# Altium footprint library Dual-In-Line Package.PcbLib: 149 footprints (part 3 of 10)
Each footprint in its own frame and in the unit in brackets; x right, y up, seen from the top. Pads: shape width x height; smd on the part's side, far side on the other; paste and mask are expansions set on the pad; w line width, h text height; cw(c..) or ccw(c..) is an arc to the next point about the centre after c.
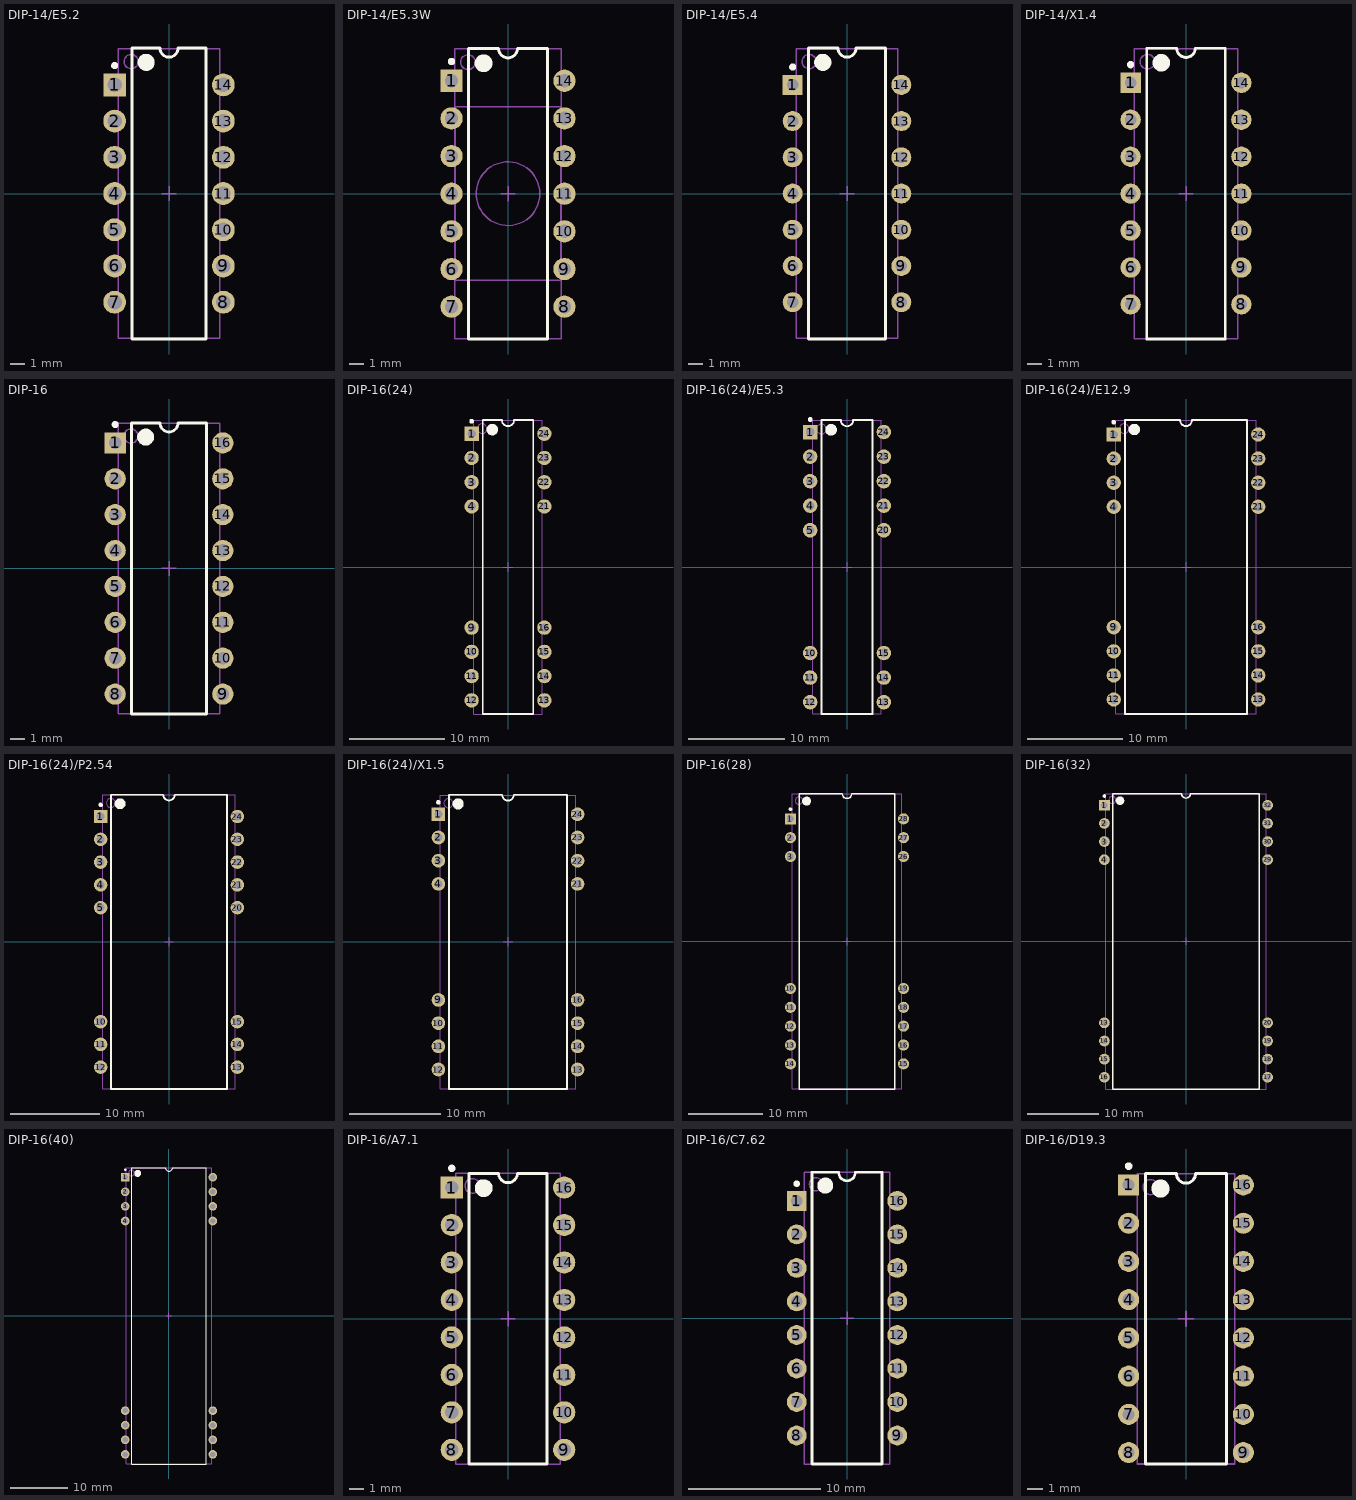
[diagram p2: the footprints below, top view; thin cyan lines are the x and y axes]

## DIP-14/E5.2 [mm] "DIP, 14-Pin, Row Spacing 7.62 mm, Pitch 2.54 mm"
height 5.08
pads (14):
  rect 1.6x1.6 hole 1: 1(-3.81,7.62)
  round 1.6 hole 1: 2(-3.81,5.08) 3(-3.81,2.54) 4(-3.81,0) 5(-3.81,-2.54) 6(-3.81,-5.08) 7(-3.81,-7.62) 8(3.81,-7.62) 9(3.81,-5.08) 10(3.81,-2.54) 11(3.81,0) 12(3.81,2.54) 13(3.81,5.08) 14(3.81,7.62)
Top Overlay:
  circle w0.6: c-1.6,9.2 r0.3
  circle w0.25: c-3.81,8.97 r0.125
  lines w0.2: -2.6,-10.2 2.6,-10.2 2.6,10.2 0.635,10.2 cw(c0,10.2) -0.635,10.2 -2.6,10.2 -2.6,-10.2
Mechanical 13:
  circle w0.1: c-2.65,9.25 r0.5
  lines w0.1: -3.55,-10.15 3.55,-10.15 3.55,10.15 -3.55,10.15 -3.55,-10.15
Mechanical 15:
  lines w0.1: -0.5,0 0.5,0 ; 0,-0.5 0,0.5
3D body: height 5.08, standoff 0, extent -3.55,-10.15 3.55,10.15

## DIP-14/E5.3W [mm] "DIP, 14-Leads, Row Spacing 7.62mm, Pitch 2.54mm, Body 18.58x7.49mm, Lid"
height 5.08
pads (14):
  rect 1.5x1.5 hole 0.9: 1(-3.81,7.62)
  round 1.5 hole 0.9: 2(-3.81,5.08) 3(-3.81,2.54) 4(-3.81,0) 5(-3.81,-2.54) 6(-3.81,-5.08) 7(-3.81,-7.62) 8(3.81,-7.62) 9(3.81,-5.08) 10(3.81,-2.54) 11(3.81,0) 12(3.81,2.54) 13(3.81,5.08) 14(3.81,7.62)
Top Overlay:
  circle w0.6: c-1.65,8.8 r0.3
  circle w0.25: c-3.81,8.92 r0.125
  lines w0.2: -2.65,-9.8 2.65,-9.8 2.65,9.8 0.635,9.8 cw(c0,9.8) -0.635,9.8 -2.65,9.8 -2.65,-9.8
Mechanical 13:
  circle w0.1: c0,0 r2.15
  circle w0.1: c-2.7,8.875 r0.5
  lines w0.1: -3.6,-9.775 3.6,-9.775 3.6,9.775 -3.6,9.775 -3.6,-9.775 ; -3.55,-5.85 3.55,-5.85 3.55,5.85 -3.55,5.85 -3.55,-5.85
Mechanical 15:
  lines w0.1: -0.5,0 0.5,0 ; 0,-0.5 0,0.5
3D body: height 3.56, standoff 0.64, extent -3.599,-9.774 3.599,9.774
3D body: height 5.08, standoff 3.56, extent -3.549,-5.849 3.549,5.849

## DIP-14/E5.4 [mm] "DIP, 14-Pin, Row Spacing 7.62 mm, Pitch 2.54 mm"
height 5.08
pads (14):
  rect 1.4x1.4 hole 0.8: 1(-3.81,7.62)
  round 1.4 hole 0.8: 2(-3.81,5.08) 3(-3.81,2.54) 4(-3.81,0) 5(-3.81,-2.54) 6(-3.81,-5.08) 7(-3.81,-7.62) 8(3.81,-7.62) 9(3.81,-5.08) 10(3.81,-2.54) 11(3.81,0) 12(3.81,2.54) 13(3.81,5.08) 14(3.81,7.62)
Top Overlay:
  circle w0.6: c-1.7,9.2 r0.3
  circle w0.25: c-3.81,8.87 r0.125
  lines w0.2: -2.7,-10.2 2.7,-10.2 2.7,10.2 0.635,10.2 cw(c0,10.2) -0.635,10.2 -2.7,10.2 -2.7,-10.2
Mechanical 13:
  circle w0.1: c-2.65,9.25 r0.5
  lines w0.1: -3.55,-10.15 3.55,-10.15 3.55,10.15 -3.55,10.15 -3.55,-10.15
Mechanical 15:
  lines w0.1: -0.5,0 0.5,0 ; 0,-0.5 0,0.5
3D body: height 5.08, standoff 0, extent -3.55,-10.15 3.55,10.15

## DIP-14/X1.4 [mm] "DIP, 14-Pin, Row Spacing 7.62 mm, Pitch 2.54 mm"
height 5.33
pads (14):
  rect 1.4x1.4 hole 0.8: 1(-3.81,7.62)
  round 1.4 hole 0.8: 2(-3.81,5.08) 3(-3.81,2.54) 4(-3.81,0) 5(-3.81,-2.54) 6(-3.81,-5.08) 7(-3.81,-7.62) 8(3.81,-7.62) 9(3.81,-5.08) 10(3.81,-2.54) 11(3.81,0) 12(3.81,2.54) 13(3.81,5.08) 14(3.81,7.62)
Top Overlay:
  circle w0.6: c-1.7,9 r0.3
  circle w0.25: c-3.81,8.87 r0.125
  lines w0.2: -2.7,-10 2.7,-10 2.7,10 0.635,10 cw(c0,10) -0.635,10 -2.7,10 -2.7,-10
Mechanical 13:
  circle w0.1: c-2.65,9.075 r0.5
  lines w0.1: -3.55,-9.975 3.55,-9.975 3.55,9.975 -3.55,9.975 -3.55,-9.975
Mechanical 15:
  lines w0.1: -0.5,0 0.5,0 ; 0,-0.5 0,0.5
3D body: height 5.33, standoff 0, extent -3.55,-9.975 3.55,9.975

## DIP-16 [mm] "DIP, 16-Pin, Row Spacing 7.62 mm, Pitch 2.54 mm"
height 5.08
pads (16):
  rect 1.5x1.5 hole 0.9: 1(-3.81,8.89)
  round 1.5 hole 0.9: 2(-3.81,6.35) 3(-3.81,3.81) 4(-3.81,1.27) 5(-3.81,-1.27) 6(-3.81,-3.81) 7(-3.81,-6.35) 8(-3.81,-8.89) 9(3.81,-8.89) 10(3.81,-6.35) 11(3.81,-3.81) 12(3.81,-1.27) 13(3.81,1.27) 14(3.81,3.81) 15(3.81,6.35) 16(3.81,8.89)
Top Overlay:
  circle w0.25: c-3.81,10.19 r0.125
  circle w0.6: c-1.65,9.3 r0.3
  lines w0.2: -2.65,-10.3 -2.65,10.3 -0.635,10.3 ccw(c0,10.3) 0.635,10.3 2.65,10.3 2.65,-10.3 -2.65,-10.3
Mechanical 13:
  circle w0.1: c-2.7,9.375 r0.5
  lines w0.1: -3.6,-10.275 -3.6,10.275 3.6,10.275 3.6,-10.275 -3.6,-10.275
Mechanical 15:
  lines w0.1: -0.5,0 0.5,0 ; 0,-0.5 0,0.5
3D body: height 5.08, standoff 0, extent -3.6,-10.275 3.6,10.275

## DIP-16(24) [mm] "DIP, 24-Pin (8 Absent), Row Spacing 7.62 mm, Pitch 2.54 mm"
height 4.7
pads (16):
  rect 1.5x1.5 hole 0.9: 1(-3.81,13.97)
  round 1.5 hole 0.9: 2(-3.81,11.43) 3(-3.81,8.89) 4(-3.81,6.35) 9(-3.81,-6.35) 10(-3.81,-8.89) 11(-3.81,-11.43) 12(-3.81,-13.97) 13(3.81,-13.97) 14(3.81,-11.43) 15(3.81,-8.89) 16(3.81,-6.35) 21(3.81,6.35) 22(3.81,8.89) 23(3.81,11.43) 24(3.81,13.97)
Top Overlay:
  circle w0.25: c-3.81,15.27 r0.125
  circle w0.6: c-1.65,14.4 r0.3
  lines w0.2: -2.65,-15.4 -2.65,15.4 -0.635,15.4 ccw(c0,15.4) 0.635,15.4 2.65,15.4 2.65,-15.4 -2.65,-15.4
Mechanical 13:
  circle w0.1: c-2.7,14.5 r0.5
  lines w0.1: -3.6,-15.4 -3.6,15.4 3.6,15.4 3.6,-15.4 -3.6,-15.4
Mechanical 15:
  lines w0.1: -0.5,0 0.5,0 ; 0,-0.5 0,0.5
3D body: height 4.7, standoff 0, extent -3.6,-15.4 3.6,15.4

## DIP-16(24)/E5.3 [mm] "DIP, 24-Pin (8 Absent), Row Spacing 7.62 mm, Pitch 2.54 mm"
height 5.33
pads (16):
  rect 1.5x1.5 hole 0.9: 1(-3.81,13.97)
  round 1.5 hole 0.9: 2(-3.81,11.43) 3(-3.81,8.89) 4(-3.81,6.35) 5(-3.81,3.81) 10(-3.81,-8.89) 11(-3.81,-11.43) 12(-3.81,-13.97) 13(3.81,-13.97) 14(3.81,-11.43) 15(3.81,-8.89) 20(3.81,3.81) 21(3.81,6.35) 22(3.81,8.89) 23(3.81,11.43) 24(3.81,13.97)
Top Overlay:
  circle w0.6: c-1.65,14.2 r0.3
  circle w0.25: c-3.81,15.27 r0.125
  lines w0.2: -2.65,-15.2 2.65,-15.2 2.65,15.2 0.635,15.2 cw(c0,15.2) -0.635,15.2 -2.65,15.2 -2.65,-15.2
Mechanical 13:
  circle w0.1: c-2.65,14.275 r0.5
  lines w0.1: -3.55,-15.175 3.55,-15.175 3.55,15.175 -3.55,15.175 -3.55,-15.175
Mechanical 15:
  lines w0.1: -0.5,0 0.5,0 ; 0,-0.5 0,0.5
3D body: height 5.33, standoff 0, extent -3.55,-15.175 3.55,15.175

## DIP-16(24)/E12.9 [mm] "DIP, 24-Pin (8 Absent), Row Spacing 15.24 mm, Pitch 2.54 mm"
height 4.7
pads (16):
  rect 1.5x1.5 hole 0.9: 1(-7.62,13.97)
  round 1.5 hole 0.9: 2(-7.62,11.43) 3(-7.62,8.89) 4(-7.62,6.35) 9(-7.62,-6.35) 10(-7.62,-8.89) 11(-7.62,-11.43) 12(-7.62,-13.97) 13(7.62,-13.97) 14(7.62,-11.43) 15(7.62,-8.89) 16(7.62,-6.35) 21(7.62,6.35) 22(7.62,8.89) 23(7.62,11.43) 24(7.62,13.97)
Top Overlay:
  circle w0.25: c-7.62,15.27 r0.125
  circle w0.6: c-5.45,14.5 r0.3
  lines w0.2: -6.45,-15.5 -6.45,15.5 -0.635,15.5 ccw(c0,15.5) 0.635,15.5 6.45,15.5 6.45,-15.5 -6.45,-15.5
Mechanical 13:
  circle w0.1: c-6.525,14.6 r0.5
  lines w0.1: -7.425,-15.5 -7.425,15.5 7.425,15.5 7.425,-15.5 -7.425,-15.5
Mechanical 15:
  lines w0.1: -0.5,0 0.5,0 ; 0,-0.5 0,0.5
3D body: height 4.7, standoff 0, extent -7.425,-15.5 7.425,15.5

## DIP-16(24)/P2.54 [mm] "DIP, 24-Pin (8 Absent), Row Spacing 15.24 mm, Pitch 2.54 mm"
height 6.35
pads (16):
  rect 1.5x1.5 hole 0.9: 1(-7.62,13.97)
  round 1.5 hole 0.9: 2(-7.62,11.43) 3(-7.62,8.89) 4(-7.62,6.35) 5(-7.62,3.81) 10(-7.62,-8.89) 11(-7.62,-11.43) 12(-7.62,-13.97) 13(7.62,-13.97) 14(7.62,-11.43) 15(7.62,-8.89) 20(7.62,3.81) 21(7.62,6.35) 22(7.62,8.89) 23(7.62,11.43) 24(7.62,13.97)
Top Overlay:
  circle w0.6: c-5.45,15.4 r0.3
  circle w0.25: c-7.62,15.27 r0.125
  lines w0.2: -6.45,-16.4 6.45,-16.4 6.45,16.4 0.635,16.4 cw(c0,16.4) -0.635,16.4 -6.45,16.4 -6.45,-16.4
Mechanical 13:
  circle w0.1: c-6.475,15.475 r0.5
  lines w0.1: -7.375,-16.375 7.375,-16.375 7.375,16.375 -7.375,16.375 -7.375,-16.375
Mechanical 15:
  lines w0.1: -0.5,0 0.5,0 ; 0,-0.5 0,0.5
3D body: height 6.35, standoff 0, extent -7.375,-16.375 7.375,16.375

## DIP-16(24)/X1.5 [mm] "DIP, 24-Pin (8 Absent), Row Spacing 15.24 mm, Pitch 2.54 mm"
height 9.52
pads (16):
  rect 1.5x1.5 hole 0.9: 1(-7.62,13.97)
  round 1.5 hole 0.9: 2(-7.62,11.43) 3(-7.62,8.89) 4(-7.62,6.35) 9(-7.62,-6.35) 10(-7.62,-8.89) 11(-7.62,-11.43) 12(-7.62,-13.97) 13(7.62,-13.97) 14(7.62,-11.43) 15(7.62,-8.89) 16(7.62,-6.35) 21(7.62,6.35) 22(7.62,8.89) 23(7.62,11.43) 24(7.62,13.97)
Top Overlay:
  circle w0.25: c-7.62,15.27 r0.125
  circle w0.6: c-5.45,15.1 r0.3
  lines w0.2: -6.45,-16.1 -6.45,16.1 -0.635,16.1 ccw(c0,16.1) 0.635,16.1 6.45,16.1 6.45,-16.1 -6.45,-16.1
Mechanical 13:
  circle w0.1: c-6.525,15.175 r0.5
  lines w0.1: -7.425,-16.075 -7.425,16.075 7.425,16.075 7.425,-16.075 -7.425,-16.075
Mechanical 15:
  lines w0.1: -0.5,0 0.5,0 ; 0,-0.5 0,0.5
3D body: height 9.52, standoff 0, extent -7.425,-16.075 7.425,16.075

## DIP-16(28) [mm] "DIP, 28-Pin (12 Absent), Row Spacing 15.24 mm, Pitch 2.54 mm"
height 6.35
pads (16):
  rect 1.5x1.5 hole 0.9: 1(-7.62,16.51)
  round 1.5 hole 0.9: 2(-7.62,13.97) 3(-7.62,11.43) 10(-7.62,-6.35) 11(-7.62,-8.89) 12(-7.62,-11.43) 13(-7.62,-13.97) 14(-7.62,-16.51) 15(7.62,-16.51) 16(7.62,-13.97) 17(7.62,-11.43) 18(7.62,-8.89) 19(7.62,-6.35) 26(7.62,11.43) 27(7.62,13.97) 28(7.62,16.51)
Top Overlay:
  circle w0.6: c-5.45,18.9 r0.3
  circle w0.25: c-7.62,17.81 r0.125
  lines w0.2: -6.45,-19.9 6.45,-19.9 6.45,19.9 0.635,19.9 cw(c0,19.9) -0.635,19.9 -6.45,19.9 -6.45,-19.9
Mechanical 13:
  circle w0.1: c-6.475,18.975 r0.5
  lines w0.1: -7.375,-19.875 7.375,-19.875 7.375,19.875 -7.375,19.875 -7.375,-19.875
Mechanical 15:
  lines w0.1: -0.5,0 0.5,0 ; 0,-0.5 0,0.5
3D body: height 6.35, standoff 0, extent -7.375,-19.875 7.375,19.875

## DIP-16(32) [mm] "DIP, 32-Pin (16 Absent), Row Spacing 22.86 mm, Pitch 2.54 mm"
height 9.4
pads (16):
  rect 1.5x1.5 hole 0.9: 1(-11.43,19.05)
  round 1.5 hole 0.9: 2(-11.43,16.51) 3(-11.43,13.97) 4(-11.43,11.43) 13(-11.43,-11.43) 14(-11.43,-13.97) 15(-11.43,-16.51) 16(-11.43,-19.05) 17(11.43,-19.05) 18(11.43,-16.51) 19(11.43,-13.97) 20(11.43,-11.43) 29(11.43,11.43) 30(11.43,13.97) 31(11.43,16.51) 32(11.43,19.05)
Top Overlay:
  circle w0.6: c-9.25,19.7 r0.3
  circle w0.25: c-11.43,20.35 r0.125
  lines w0.2: -10.25,-20.7 10.25,-20.7 10.25,20.7 0.635,20.7 cw(c0,20.7) -0.635,20.7 -10.25,20.7 -10.25,-20.7
Mechanical 13:
  circle w0.1: c-10.325,19.8 r0.5
  lines w0.1: -11.225,-20.7 11.225,-20.7 11.225,20.7 -11.225,20.7 -11.225,-20.7
Mechanical 15:
  lines w0.1: -0.5,0 0.5,0 ; 0,-0.5 0,0.5
3D body: height 9.4, standoff 0, extent -11.225,-20.7 11.225,20.7

## DIP-16(40) [mm] "DIP, 40-Pin (24 Absent), Row Spacing 15.24 mm, Pitch 2.54 mm"
height 4.83
pads (16):
  rect 1.5x1.5 hole 0.9: 1(-7.62,24.13)
  round 1.5 hole 0.9: 2(-7.62,21.59) 3(-7.62,19.05) 4(-7.62,16.51) 17(-7.62,-16.51) 18(-7.62,-19.05) 19(-7.62,-21.59) 20(-7.62,-24.13) 21(7.62,-24.13) 22(7.62,-21.59) 23(7.62,-19.05) 24(7.62,-16.51) 37(7.62,16.51) 38(7.62,19.05) 39(7.62,21.59) 40(7.62,24.13)
Top Overlay:
  circle w0.25: c-7.62,25.43 r0.125
  circle w0.6: c-5.45,24.8 r0.3
  lines w0.2: -6.45,-25.8 -6.45,25.8 -0.635,25.8 ccw(c0,25.8) 0.635,25.8 6.45,25.8 6.45,-25.8 -6.45,-25.8
Mechanical 13:
  circle w0.1: c-6.525,24.875 r0.5
  lines w0.1: -7.425,-25.775 -7.425,25.775 7.425,25.775 7.425,-25.775 -7.425,-25.775
Mechanical 15:
  lines w0.1: -0.5,0 0.5,0 ; 0,-0.5 0,0.5
3D body: height 4.83, standoff 0, extent -7.425,-25.775 7.425,25.775

## DIP-16/A7.1 [mm] "DIP, 16-Leads, Row Spacing 7.62mm, Pitch 2.54mm, Body 19.2x6.6mm"
height 5.34
pads (16):
  rect 1.5x1.5 hole 0.9: 1(-3.81,8.89)
  round 1.5 hole 0.9: 2(-3.81,6.35) 3(-3.81,3.81) 4(-3.81,1.27) 5(-3.81,-1.27) 6(-3.81,-3.81) 7(-3.81,-6.35) 8(-3.81,-8.89) 9(3.81,-8.89) 10(3.81,-6.35) 11(3.81,-3.81) 12(3.81,-1.27) 13(3.81,1.27) 14(3.81,3.81) 15(3.81,6.35) 16(3.81,8.89)
Top Overlay:
  circle w0.6: c-1.65,8.85 r0.3
  circle w0.25: c-3.81,10.19 r0.125
  lines w0.2: -2.65,-9.85 2.65,-9.85 2.65,9.85 0.635,9.85 cw(c0,9.85) -0.635,9.85 -2.65,9.85 -2.65,-9.85
Mechanical 13:
  circle w0.1: c-2.4,9 r0.5
  lines w0.1: -3.55,-9.85 3.55,-9.85 3.55,9.85 -3.55,9.85 -3.55,-9.85
Mechanical 15:
  lines w0.1: -0.5,0 0.5,0 ; 0,-0.5 0,0.5
3D body: height 5.34, standoff 0.38, extent -3.549,-9.849 3.549,9.849

## DIP-16/C7.62 [mm] "DIP, 16-Pin, Row Spacing 7.62 mm, Pitch 2.54 mm"
height 5.08
pads (16):
  rect 1.5x1.5 hole 0.9: 1(-3.81,8.89)
  round 1.5 hole 0.9: 2(-3.81,6.35) 3(-3.81,3.81) 4(-3.81,1.27) 5(-3.81,-1.27) 6(-3.81,-3.81) 7(-3.81,-6.35) 8(-3.81,-8.89) 9(3.81,-8.89) 10(3.81,-6.35) 11(3.81,-3.81) 12(3.81,-1.27) 13(3.81,1.27) 14(3.81,3.81) 15(3.81,6.35) 16(3.81,8.89)
Top Overlay:
  circle w0.6: c-1.65,10.05 r0.3
  circle w0.25: c-3.81,10.19 r0.125
  lines w0.2: -2.65,-11.05 2.65,-11.05 2.65,11.05 0.635,11.05 cw(c0,11.05) -0.635,11.05 -2.65,11.05 -2.65,-11.05
Mechanical 13:
  circle w0.1: c-2.35,10.15 r0.5
  lines w0.1: -3.25,-11.05 3.25,-11.05 3.25,11.05 -3.25,11.05 -3.25,-11.05
Mechanical 15:
  lines w0.1: -0.5,0 0.5,0 ; 0,-0.5 0,0.5
3D body: height 5.08, standoff 0, extent -3.25,-11.05 3.25,11.05

## DIP-16/D19.3 [mm] "DIP, 16-Pin, Row Spacing 7.62 mm, Pitch 2.54 mm"
height 4
pads (16):
  rect 1.4x1.4 hole 0.8: 1(-3.81,8.89)
  round 1.4 hole 0.8: 2(-3.81,6.35) 3(-3.81,3.81) 4(-3.81,1.27) 5(-3.81,-1.27) 6(-3.81,-3.81) 7(-3.81,-6.35) 8(-3.81,-8.89) 9(3.81,-8.89) 10(3.81,-6.35) 11(3.81,-3.81) 12(3.81,-1.27) 13(3.81,1.27) 14(3.81,3.81) 15(3.81,6.35) 16(3.81,8.89)
Top Overlay:
  circle w0.25: c-3.81,10.14 r0.125
  circle w0.6: c-1.7,8.65 r0.3
  lines w0.2: -2.7,-9.65 -2.7,9.65 -0.635,9.65 ccw(c0,9.65) 0.635,9.65 2.7,9.65 2.7,-9.65 -2.7,-9.65
Mechanical 13:
  circle w0.1: c-2.35,8.75 r0.5
  lines w0.1: -3.25,-9.65 -3.25,9.65 3.25,9.65 3.25,-9.65 -3.25,-9.65
Mechanical 15:
  lines w0.1: -0.5,0 0.5,0 ; 0,-0.5 0,0.5
3D body: height 4, standoff 0, extent -3.25,-9.65 3.25,9.65